# Altium schematic symbol library BQ25895MRTWT.Schlib: 1 symbol
Pins are listed as number, name and electrical type; pins without a type are passive.

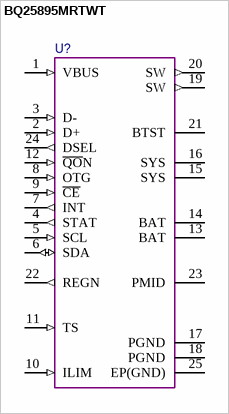
[diagram p0: symbol BQ25895MRTWT]

## BQ25895MRTWT
designator U?  (value not drawn)
I2C Controlled Single Cell Fast Charger with MaxCharge Technology for High Input Voltage and Adjustable Voltage 3.1 A Boost Operation
pins: 1 VBUS (in), 2 D+ (in), 3 D- (in), 4 STAT (out), 5 SCL (in), 6 SDA (io), 7 INT (out), 8 OTG (in), 9 ~{CE} (in), 10 ILIM (in), 11 TS (in), 12 ~{QO}N (in), 13 BAT (power), 14 BAT (power), 15 SYS (power), 16 SYS (power), 17 PGND (power), 18 PGND (power), 19 SW (out), 20 SW (out), 21 BTST (power), 22 REGN (out), 23 PMID (power), 24 DSEL (out), 25 EP(GND) (power)